# Altium footprint library light.PcbLib: 16 footprints
Each footprint in its own frame and in the unit in brackets; x right, y up, seen from the top. Pads: shape width x height; smd on the part's side, far side on the other; paste and mask are expansions set on the pad; w line width, h text height; cw(c..) or ccw(c..) is an arc to the next point about the centre after c.
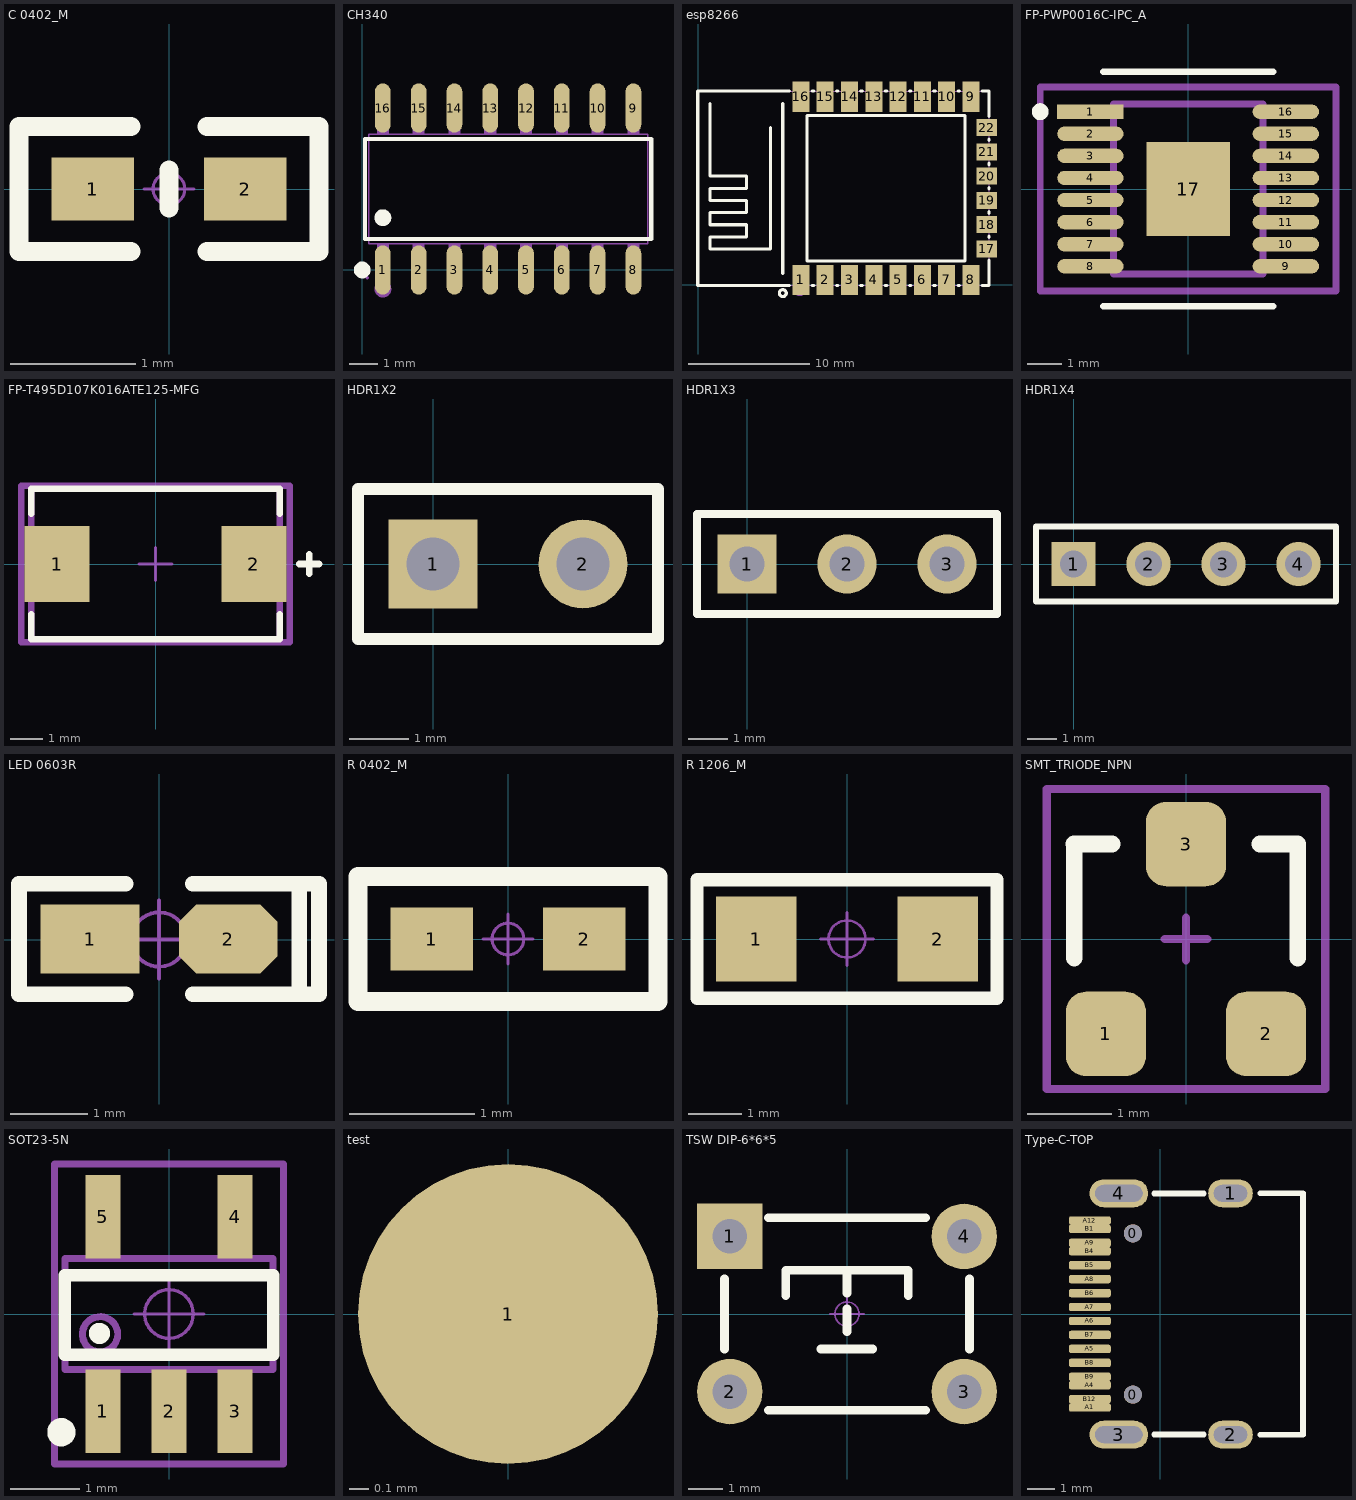
[diagram p0: the footprints below, top view; thin cyan lines are the x and y axes]

## C 0402_M [mil]
pads (2):
  rect 26x20 smd: 1(-24,0) 2(24,0)
Top Overlay:
  lines w6: -12,-19.68 -47.24,-19.68 -47.24,19.68 -12,19.68 ; 0,-6 0,6 ; 12,-19.68 47.24,-19.68 47.24,19.68 12,19.68
Mechanical 15:
  circle w1: c0,0 r5
  lines w1: -7.87,0 7.87,0 ; 0,-7.87 0,7.87
3D body "C 0402.STEP": height 20.68, standoff 0.21, extent -19.69,-10.24 19.69,10.24

## CH340 [mil]
pads (16):
  oval 22x68.7 smd mask+2: 1(28.5,-0.65) 2(78.5,-0.65) 3(128.5,-0.65) 4(178.5,-0.65) 5(228.5,-0.65) 6(278.5,-0.65) 7(328.5,-0.65) 8(378.5,-0.65) 9(378.5,225.55) 10(328.5,225.55) 11(278.5,225.55) 12(228.5,225.55) 13(178.5,225.55) 14(128.5,225.55) 15(78.5,225.55) 16(28.5,225.55)
Top Overlay:
  circle w11.8: c28.5,72.35 r5.9
  circle w11.8: c-0.3,-0.65 r5.9
  lines w6: 3.7,42.75 3.7,182.15 403.4,182.15 403.4,42.75 3.7,42.75
Mechanical 6:
  circle w11.8: c28.5,-27.35 r5.9
Mechanical 15:
  drawing of 37 lines, arcs and shapes, not listed
3D body "PCB.x_t": height 66.93, standoff 0.02, extent 8.14,-10.19 401.84,230.2

## esp8266 [mil]
pads (22):
  rect 55.1x98.4 smd mask+2: 1(332.3,15.15) 2(411,15.15) 3(489.8,15.15) 4(568.5,15.15) 5(647.3,15.15) 6(726,15.15) 7(804.7,15.15) 8(883.5,15.15) 9(883.5,609.65) 10(804.7,609.75) 11(726,609.75) 12(647.3,609.75) 13(568.5,609.65) 14(489.8,609.75) 15(411,609.75) 16(332.3,609.75)
  rect 66.9x55.1 smd mask+2: 17(934.7,115.65) 18(934.6,194.25) 19(934.7,272.95) 20(934.7,351.75) 21(934.7,430.45) 22(934.7,509.15)
Top Overlay:
  lines w10: 37,587.95 37,351.75 155.1,351.75 155.1,312.35 37,312.35 37,273.05 155.1,273.05 155.1,233.65 37,233.65 37,194.25 155.1,194.25 155.1,154.95 37,154.95 37,115.55 233.9,115.55 233.9,509.25 ; 262.31,-28.05 262.4,-29.03 ; 262.31,-27.05 262.4,-26.07 ; 262.57,-30.01 262.83,-30.96 ; 262.57,-25.09 262.83,-24.14 ; 263.18,-31.89 263.6,-32.79 ; 263.18,-23.21 263.6,-22.31 ; 264.1,-33.64 264.68,-34.45 ; 264.1,-21.46 264.68,-20.65 ; 265.32,-35.2 266.03,-35.9 ; 265.32,-19.9 266.03,-19.2 ; 266.8,-36.52 267.62,-37.08 ; 266.8,-18.58 267.62,-18.02 ; 268.48,-37.56 269.39,-37.97 ; 268.48,-17.54 269.39,-17.13 ; 270.32,-38.29 271.28,-38.53 ; 270.32,-16.81 271.28,-16.57 ; 272.26,-38.68 273.25,-38.75 ; 272.26,-16.42 273.25,-16.35 ; 273.2,36.85 273.2,587.95 ; 274.24,-38.73 275.23,-38.62 ; 274.24,-16.37 275.23,-16.48 ; 276.2,-38.42 277.15,-38.14 ; 276.2,-16.68 277.15,-16.96 ; 278.07,-37.77 278.96,-37.33 ; 278.07,-17.32 278.96,-17.77 ; 279.8,-36.81 280.59,-36.22 ; 279.8,-18.29 280.59,-18.88 ; 281.33,-35.56 282.01,-34.83 ; 281.33,-19.54 282.01,-20.27 ; 282.62,-34.05 283.16,-33.22 ; 282.62,-21.05 283.16,-21.88 ; 283.62,-32.35 284.01,-31.43 ; 283.62,-22.75 284.01,-23.67 ; 284.31,-30.49 284.52,-29.52 ; 284.31,-24.61 284.52,-25.58 ; 284.66,-28.54 284.7,-27.55 284.66,-26.56 ; 295.6,-2.55 -2.4,-2.55 -2.4,627.35 295.6,627.35 ; 369,-2.55 374.4,-2.55 ; 369,627.35 374.4,627.35 ; 447.7,-2.55 453.1,-2.55 ; 447.7,627.35 453.1,627.35 ; 526.4,-2.55 531.9,-2.55 ; 526.4,627.35 531.9,627.35 ; 605.2,-2.55 610.6,-2.55 ; 605.2,627.35 610.6,627.35 ; 683.9,-2.55 689.3,-2.55 ; 683.9,627.35 689.3,627.35 ; 762.7,-2.55 768.1,-2.55 ; 762.7,627.35 768.1,627.35 ; 841.4,-2.55 846.8,-2.55 ; 841.4,627.35 846.8,627.35 ; 920.1,-2.55 942.4,-2.55 942.4,78.95 ; 920.1,627.35 942.4,627.35 942.4,545.85 ; 942.4,152.25 942.4,157.65 ; 942.4,230.95 942.4,236.25 ; 942.4,309.65 942.4,315.05 ; 942.4,388.35 942.4,393.75 ; 942.4,467.05 942.4,472.55 ; 352,76.15 863.8,76.15 863.8,548.65 352,548.65 352,76.15
Mechanical 6:
  lines w19.7: 318.71,-18.04 318.81,-19.01 ; 318.71,-17.06 318.81,-16.09 ; 319,-19.97 319.29,-20.9 ; 319,-15.13 319.29,-14.2 ; 319.67,-21.8 320.14,-22.66 ; 319.67,-13.3 320.14,-12.44 ; 320.69,-23.47 321.32,-24.22 ; 320.69,-11.63 321.32,-10.88 ; 322.02,-24.9 322.78,-25.51 ; 322.02,-10.2 322.78,-9.59 ; 323.6,-26.04 324.47,-26.48 ; 323.6,-9.06 324.47,-8.62 ; 325.38,-26.84 326.32,-27.1 ; 325.38,-8.26 326.32,-8 ; 327.28,-27.27 328.26,-27.35 ; 327.28,-7.83 328.26,-7.75 ; 329.23,-27.32 330.2,-27.2 ; 329.23,-7.78 330.2,-7.9 ; 331.15,-26.98 332.08,-26.67 ; 331.15,-8.12 332.08,-8.43 ; 332.97,-26.27 333.82,-25.78 ; 332.97,-8.83 333.82,-9.32 ; 334.61,-25.21 335.34,-24.57 ; 334.61,-9.89 335.34,-10.53 ; 336.01,-23.85 336.6,-23.07 ; 336.01,-11.25 336.6,-12.03 ; 337.11,-22.24 337.53,-21.36 ; 337.11,-12.86 337.53,-13.74 ; 337.86,-20.44 338.11,-19.49 ; 337.86,-14.66 338.11,-15.61 ; 338.25,-18.53 338.3,-17.55 338.25,-16.57
Mechanical 15:
  region: 352,62.45 352,-2.55 312.6,-2.55 312.6,62.45
  region: 430.7,62.45 430.7,-2.55 391.4,-2.55 391.4,62.45
  region: 509.5,62.45 509.5,-2.55 470.1,-2.55 470.1,62.45
  region: 588.2,62.45 588.2,-2.55 548.8,-2.55 548.8,62.45
  region: 666.9,62.45 666.9,-2.55 627.6,-2.55 627.6,62.45
  region: 745.7,62.45 745.7,-2.55 706.3,-2.55 706.3,62.45
  region: 824.4,62.45 824.4,-2.55 785.1,-2.55 785.1,62.45
  region: 903.2,62.45 903.2,-2.55 863.8,-2.55 863.8,62.45
  region: 863.8,562.45 863.8,627.45 903.2,627.45 903.2,562.45
  region: 785.1,562.45 785.1,627.45 824.4,627.45 824.4,562.45
  region: 706.3,562.45 706.3,627.45 745.7,627.45 745.7,562.45
  region: 627.6,562.45 627.6,627.45 666.9,627.45 666.9,562.45
  region: 548.8,562.45 548.8,627.45 588.2,627.45 588.2,562.45
  region: 470.1,562.45 470.1,627.45 509.5,627.45 509.5,562.45
  region: 391.4,562.45 391.4,627.45 430.7,627.45 430.7,562.45
  region: 312.6,562.45 312.6,627.45 352,627.45 352,562.45
  region: 942.5,135.25 942.5,95.95 907.1,95.95 907.1,135.25
  region: 942.5,213.95 942.5,174.55 907.1,174.55 907.1,213.95
  region: 942.5,292.65 942.5,253.25 907.1,253.25 907.1,292.65
  region: 942.5,371.45 942.5,332.05 907.1,332.05 907.1,371.45
  region: 942.5,450.15 942.5,410.75 907.1,410.75 907.1,450.15
  region: 942.5,528.85 942.5,489.45 907.1,489.45 907.1,528.85
  region: 0,-2.65 0,-1.66 -1.41,-0.25 -3.39,-0.25 -4.8,-1.66 -4.8,-2.65 -4.8,-3.64 -3.39,-5.05 -1.41,-5.05 0,-3.64
  lines w2: -2.4,-2.65 942.5,-2.65 942.5,627.25 -2.4,627.25 -2.4,-2.65
3D body "3D_PCB_step.stp": height 126.32, standoff 3.94, extent -0.7,-5.19 944.12,625.21

## FP-PWP0016C-IPC_A [mm]
pads (17):
  rect 1.955x0.421 smd paste+0 mask+0: 1(-2.875,2.275)
  rrect100% 1.955x0.421 smd paste+0 mask+0: 2(-2.875,1.625) 3(-2.875,0.975) 4(-2.875,0.325) 5(-2.875,-0.325) 6(-2.875,-0.975) 7(-2.875,-1.625) 8(-2.875,-2.275) 9(2.875,-2.275) 10(2.875,-1.625) 11(2.875,-0.975) 12(2.875,-0.325) 13(2.875,0.325) 14(2.875,0.975) 15(2.875,1.625) 16(2.875,2.275)
  rect 2.46x2.77 smd paste-1000 mask+0: 17(0,0)
Top Overlay:
  circle w0.25: c-4.353,2.275 r0.125
  lines w0.2: -2.5,-3.45 2.5,-3.45 ; -2.5,3.45 2.5,3.45
Top Paste:
  rectangle: -0.752,-0.907 0.752,0.907
Top 3D Body:
  lines w0.2: -2.2,-2.5 2.2,-2.5 2.2,2.5 -2.2,2.5 -2.2,-2.5
Top Courtyard:
  lines w0.2: -4.353,-3 4.353,-3 4.353,3 -4.353,3 -4.353,-3
Top Assembly:
  lines w0.2: -4.353,-3 4.353,-3 4.353,3 -4.353,3 -4.353,-3
  text ".Designator" at 0,-0.001 h1
Top Component Center:
  lines w0.1: -0.5,0 0.5,0 ; 0,-0.5 0,0.5
3D body "IC_Texas_Instruments_DRV8876PWPR_eec.STEP": height 0.25, standoff 0, extent -4.353,-3 4.353,3

## FP-T495D107K016ATE125-MFG [mm]
pads (2):
  rect 1.99x2.33 smd paste+0 mask+0: 1(-3.01,0) 2(3.01,0)
Top Overlay:
  lines w0.2: -3.8,-1.54 -3.8,-2.3 3.8,-2.3 3.8,-1.54 ; -3.8,1.54 -3.8,2.3 3.8,2.3 3.8,1.54 ; 4.4,0 5,0 ; 4.7,-0.3 4.7,0.3
Top 3D Body:
  lines w0.2: -3.8,-2.3 3.8,-2.3 3.8,2.3 -3.8,2.3 -3.8,-2.3
Top Courtyard:
  lines w0.2: -4.105,-2.4 4.105,-2.4 4.105,2.4 -4.105,2.4 -4.105,-2.4
Top Assembly:
  lines w0.2: -4.105,-2.4 4.105,-2.4 4.105,2.4 -4.105,2.4 -4.105,-2.4
  text ".Designator" at 0,-0.001 h1
Top Component Center:
  lines w0.1: -0.5,0 0.5,0 ; 0,-0.5 0,0.5
3D body "Cap_Kemet_T495D107K016ATE125_eec.STEP": height 0.25, standoff 0, extent -4.105,-2.4 4.105,2.4

## HDR1X2 [mm]
pads (2):
  rect 1.5x1.5 hole 0.9: 1(0,0)
  round 1.5 hole 0.9: 2(2.54,0)
Top Overlay:
  lines w0.2: -1.27,-1.27 -1.27,1.27 3.81,1.27 3.81,-1.27 -1.27,-1.27

## HDR1X3 [mm]
pads (3):
  rect 1.5x1.5 hole 0.9: 1(0,0)
  round 1.5 hole 0.9: 2(2.54,0) 3(5.08,0)
Top Overlay:
  lines w0.2: -1.27,-1.27 -1.27,1.27 6.35,1.27 6.35,-1.27 -1.27,-1.27

## HDR1X4 [mm]
pads (4):
  rect 1.5x1.5 hole 0.9: 1(0,0)
  round 1.5 hole 0.9: 2(2.54,0) 3(5.08,0) 4(7.62,0)
Top Overlay:
  lines w0.2: -1.27,-1.27 8.89,-1.27 8.89,1.27 -1.27,1.27 -1.27,-1.27

## LED 0603R [mil]
pads (2):
  rect 50x35 smd: 1(-35,0.26)
  oct 50x35 smd: 2(35,0.26)
Top Overlay:
  lines w8: -17,-27.74 -71,-27.74 -71,-25.74 -71,28.26 -70,28.26 -17,28.26 ; 17,-27.74 70,-27.74 ; 17,28.26 71,28.26 81,28.26 81,-27.74 71,-27.74 71,26.26
Mechanical 15:
  circle w1.97: c0,0 r13.78
  lines w1.97: -19.68,0 19.68,0 ; 0,-19.68 0,19.68
3D body "LED 0603-R.STEP": height 18.36, standoff -0.16, extent -31.5,-15.79 31.5,15.79
3D body "LED 0603玻璃罩.": height 0, standoff 0, extent 0,0 0,0

## R 0402_M [mil]
pads (2):
  rect 26x20 smd: 1(-24,0) 2(24,0)
Top Overlay:
  lines w6: -47.24,-19.68 -47.24,19.68 47.24,19.68 47.24,-19.68 -47.24,-19.68
Mechanical 15:
  circle w1: c0,0 r5
  lines w1: -7.87,0 7.87,0 ; 0,-7.87 0,7.87
3D body "R 0402.STEP": height 11.85, standoff -0.09, extent -19.68,-9.84 19.69,9.85

## R 1206_M [mil]
pads (2):
  rect 60x62.99 smd: 1(-67.5,0) 2(67.5,0)
Top Overlay:
  lines w10: -111.5,-44 111.5,-44 111.5,44 -111.5,44 -111.5,-44
Mechanical 15:
  circle w1.97: c0,0 r13.78
  lines w1.97: -19.68,0 19.68,0 ; 0,-19.68 0,19.68
3D body "R 1206.STEP": height 21.69, standoff -0.24, extent -62.99,-31.49 63,31.5

## SMT_TRIODE_NPN [mm]
pads (3):
  rrect50% 0.95x1 smd: 1(-0.95,-1.125) 2(0.95,-1.125) 3(0,1.125)
Top Overlay:
  lines w0.2: -1.328,1.125 -0.875,1.125 ; -1.325,-0.225 -1.325,1.125 ; 0.875,1.125 1.325,1.125 1.325,-0.225
Mechanical 15:
  lines w0.1: -0.254,0 0.254,0 ; 0,-0.254 0,0.254 ; -1.651,-1.778 -1.651,1.778 1.651,1.778 1.651,-1.778 -1.651,-1.778
3D body "User Library-SOT23-3.step": height 1.3, standoff 0, extent -1.448,-1.397 1.452,1.403

## SOT23-5N [mm]
pads (5):
  rect 0.5x1.2 smd: 1(-0.95,-1.4) 2(0,-1.4) 3(0.95,-1.4) 4(0.95,1.4) 5(-0.95,1.4)
Top Overlay:
  circle w0.254: c-1.001,-0.279 r0.025
  circle w0.254: c-1.549,-1.702 r0.076
  lines w0.178: -1.5,-0.584 1.5,-0.584 1.5,0.559 -1.5,0.559 -1.5,-0.584
Mechanical 13:
  circle w0.1: c-0.992,-0.292 r0.254
  lines w0.1: -1.5,-0.8 1.5,-0.8 1.5,0.8 -1.5,0.8 -1.5,-0.8
Mechanical 15:
  circle w0.05: c0,0 r0.35
  lines w0.05: -0.5,0 0.5,0 ; 0,-0.5 0,0.5
  lines w0.1: -1.651,-2.159 -1.651,2.159 1.651,2.159 1.651,-2.159 -1.651,-2.159
3D body "SOT23-5.STEP": height 1.15, standoff -0.03, extent -1.5,-1.403 1.5,1.403

## test [mil]
pads (1):
  round 60 smd: 1(0,0)

## TSW DIP-6*6*5 [mm]
pads (4):
  rect 1.9x1.9 hole 1: 1(-3.4,2.25)
  round 1.9 hole 1: 2(-3.4,-2.25) 3(3.4,-2.25) 4(3.4,2.25)
Top Overlay:
  lines w0.254: -3.556,-1.016 -3.556,1.016 ; -2.286,-2.794 2.286,-2.794 ; -2.286,2.794 2.286,2.794 ; -1.778,0.533 -1.778,1.27 1.778,1.27 1.778,0.533 ; -0.762,-1.016 0.737,-1.016 ; 0,-0.508 0,0.152 ; 0,0.61 0,1.27 ; 3.556,-1.016 3.556,1.016
Bottom Overlay:
  lines w0.254: -2.286,-2.286 2.286,-2.286 ; -2.286,2.286 2.286,2.286
Mechanical 15:
  circle w0.05: c0,0 r0.35
  lines w0.05: -0.5,0 0.5,0 ; 0,-0.5 0,0.5
3D body "TSW DIP-6x6x5.STEP": height 4.95, standoff -3.45, extent -4.106,-3 4.106,3

## Type-C-TOP [mm]
pads (22):
  round 0.65 hole 0.65: 0(-0.98,-2.89) 0(-0.98,2.89)
  oval 1.6x1 hole 0.6 slot 1.2 at 0 deg: 1(2.52,4.325) 2(2.52,-4.325)
  oval 2.1x1 hole 0.6 slot 1.7 at 0 deg: 3(-1.48,-4.325) 4(-1.48,4.325)
  rrect50% 1.5x0.3 smd: A1(-2.52,-3.35) A4(-2.52,-2.55) A5(-2.52,-1.25) A6(-2.52,-0.25) A7(-2.52,0.25) A8(-2.52,1.25) A9(-2.52,2.55) A12(-2.52,3.35) B1(-2.52,3.05) B4(-2.52,2.25) B5(-2.52,1.75) B6(-2.52,0.75) B7(-2.52,-0.75) B8(-2.52,-1.75) B9(-2.52,-2.25) B12(-2.52,-3.05)
Top Overlay:
  lines w0.203: -0.218,-4.318 1.56,-4.318 ; -0.218,4.318 1.56,4.318 ; 3.592,-4.325 5.12,-4.325 5.12,4.325 3.592,4.325
3D body "1.step": height 3.26, standoff -1, extent -2.568,-4.475 5.182,4.475